# Altium integrated library ALTIUM-WL-SMSW-rev17a.IntLib: 5 symbols
Pins are listed as number, name and electrical type; pins without a type are passive.

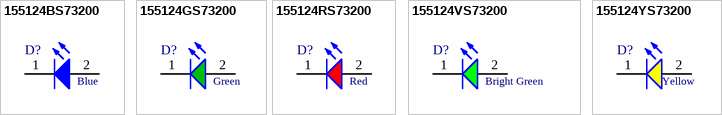
[diagram p0: symbols 155124BS73200 to 155124YS73200]

## 155124BS73200
designator D?  Emitting Color: Blue
WL-SMSW SMD Mono-color Side view Waterclear, size 1204, Blue; Part Number: 155124BS73200; Forward Voltage: 3.4 V; Viewing Angle: 120°; Luminous Intensity: 150 mcd; Published Date: Jan 2017; Publisher: Wurth Elektronik; ComponentLink1Description: Manufacturer; ComponentLink1URL: http://www.we-online.de; ComponentLink2Description: Datasheet; ComponentLink2URL: http://katalog.we-online.de/led/datasheet/155124BS73200.pdf; Size: 1204
footprint WL-SMSW_1204 (SMD Mono-color Side view LED, body 3.2x1.0mm)
pins: 1 K, 2 A

## 155124GS73200
designator D?  Emitting Color: Green
WL-SMSW SMD Mono-color Side view Waterclear, size 1204, Green; Part Number: 155124GS73200; Forward Voltage: 3.3 V; Viewing Angle: 120°; Luminous Intensity: 600 mcd; Published Date: Jan 2017; Publisher: Wurth Elektronik; ComponentLink1Description: Manufacturer; ComponentLink1URL: http://www.we-online.de; ComponentLink2Description: Datasheet; ComponentLink2URL: http://katalog.we-online.de/led/datasheet/155124GS73200.pdf; Size: 1204
footprint WL-SMSW_1204 (SMD Mono-color Side view LED, body 3.2x1.0mm)
pins: 1 K, 2 A

## 155124RS73200
designator D?  Emitting Color: Red
WL-SMSW SMD Mono-color Side view Waterclear, size 1204, Red; Part Number: 155124RS73200; Forward Voltage: 2 V; Viewing Angle: 120°; Luminous Intensity: 130 mcd; Published Date: Jan 2017; Publisher: Wurth Elektronik; ComponentLink1Description: Manufacturer; ComponentLink1URL: http://www.we-online.de; ComponentLink2Description: Datasheet; ComponentLink2URL: http://katalog.we-online.de/led/datasheet/155124RS73200.pdf; Size: 1204
footprint WL-SMSW_1204 (SMD Mono-color Side view LED, body 3.2x1.0mm)
pins: 1 K, 2 A

## 155124VS73200
designator D?  Emitting Color: Bright Green
WL-SMSW SMD Mono-color Side view Waterclear, size 1204, Bright Green; Part Number: 155124VS73200; Forward Voltage: 2 V; Viewing Angle: 120°; Luminous Intensity: 50 mcd; Published Date: Jan 2017; Publisher: Wurth Elektronik; ComponentLink1Description: Manufacturer; ComponentLink1URL: http://www.we-online.de; ComponentLink2Description: Datasheet; ComponentLink2URL: http://katalog.we-online.de/led/datasheet/155124VS73200.pdf; Size: 1204
footprint WL-SMSW_1204 (SMD Mono-color Side view LED, body 3.2x1.0mm)
pins: 1 K, 2 A

## 155124YS73200
designator D?  Emitting Color: Yellow
WL-SMSW SMD Mono-color Side view Waterclear, size 1204, Yellow; Part Number: 155124YS73200; Forward Voltage: 2 V; Viewing Angle: 120°; Luminous Intensity: 130 mcd; Published Date: Jan 2017; Publisher: Wurth Elektronik; ComponentLink1Description: Manufacturer; ComponentLink1URL: http://www.we-online.de; ComponentLink2Description: Datasheet; ComponentLink2URL: http://katalog.we-online.de/led/datasheet/155124YS73200.pdf; Size: 1204
footprint WL-SMSW_1204 (SMD Mono-color Side view LED, body 3.2x1.0mm)
pins: 1 K, 2 A